# Altium footprint library PcbLib1.PcbLib: 54 footprints (part 4 of 4)
Each footprint in its own frame and in the unit in brackets; x right, y up, seen from the top. Pads: shape width x height; smd on the part's side, far side on the other; paste and mask are expansions set on the pad; w line width, h text height; cw(c..) or ccw(c..) is an arc to the next point about the centre after c.
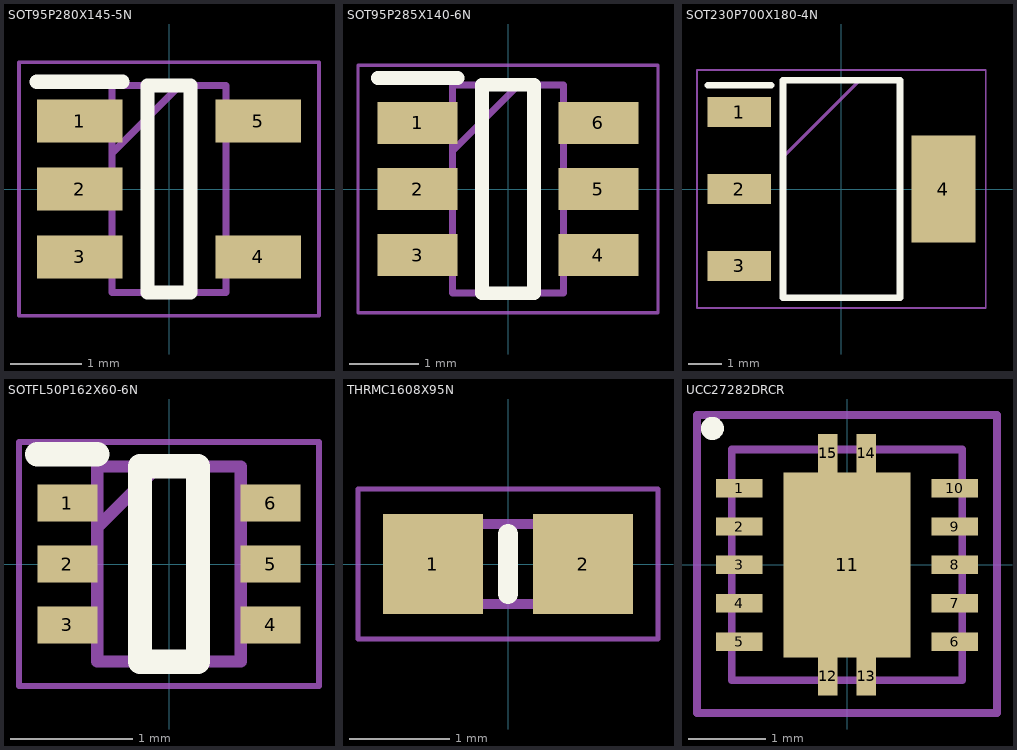
[diagram p3: the footprints below, top view; thin cyan lines are the x and y axes]

## SOT95P280X145-5N [mm]
pads (5):
  rect 1.2x0.6 smd: 1(-1.25,0.95) 2(-1.25,0) 3(-1.25,-0.95) 4(1.25,-0.95) 5(1.25,0.95)
Top Overlay:
  lines w0.2: -1.85,1.5 -0.65,1.5 ; -0.3,-1.45 0.3,-1.45 0.3,1.45 -0.3,1.45 -0.3,-1.45
Mechanical 13:
  lines w0.1: -0.8,0.5 0.15,1.45 ; -0.8,-1.45 0.8,-1.45 0.8,1.45 -0.8,1.45 -0.8,-1.45
Mechanical 15:
  lines w0.05: -2.1,-1.775 2.1,-1.775 2.1,1.775 -2.1,1.775 -2.1,-1.775
3D body "LMR62014XMF_NOPB.stp": height 1.2, standoff 0, extent -1.4,-1.45 1.4,1.45

## SOT95P285X140-6N [mm]
pads (6):
  rect 1.15x0.6 smd: 1(-1.3,0.95) 2(-1.3,0) 3(-1.3,-0.95) 4(1.3,-0.95) 5(1.3,0) 6(1.3,0.95)
Top Overlay:
  lines w0.2: -1.875,1.6 -0.725,1.6 ; -0.375,-1.5 -0.375,1.5 0.375,1.5 0.375,-1.5 -0.375,-1.5
Mechanical 13:
  lines w0.1: -0.8,0.55 0.15,1.5 ; -0.8,-1.5 -0.8,1.5 0.8,1.5 0.8,-1.5 -0.8,-1.5
Mechanical 15:
  lines w0.05: -2.159,-1.778 -2.159,1.778 2.159,1.778 2.159,-1.778 -2.159,-1.778
3D body "74LVC1G11W6-7.stp": height 1.4, standoff 0, extent -1.425,-1.5 1.425,1.5

## SOT230P700X180-4N [mm]
pads (4):
  rect 1.9x0.9 smd: 1(-3.05,2.3) 2(-3.05,0) 3(-3.05,-2.3)
  rect 1.9x3.2 smd: 4(3.05,0)
Top Overlay:
  lines w0.2: -4,3.1 -2.1,3.1 ; -1.75,-3.25 1.75,-3.25 1.75,3.25 -1.75,3.25 -1.75,-3.25
Mechanical 13:
  lines w0.1: -1.75,0.95 0.55,3.25 ; -1.75,-3.25 1.75,-3.25 1.75,3.25 -1.75,3.25 -1.75,-3.25
Mechanical 15:
  lines w0.05: -4.318,-3.556 4.318,-3.556 4.318,3.556 -4.318,3.556 -4.318,-3.556
3D body "AP2114H-3.3TRG1.stp": height 1.8, standoff 0, extent -3.5,-3.25 3.5,3.25

## SOTFL50P162X60-6N [mm]
pads (6):
  rect 0.492x0.3 smd: 1(-0.834,0.5) 2(-0.834,0) 3(-0.834,-0.5) 4(0.834,-0.5) 5(0.834,0) 6(0.834,0.5)
Top Overlay:
  lines w0.2: -1.08,0.9 -0.588,0.9 ; -0.238,-0.8 0.238,-0.8 0.238,0.8 -0.238,0.8 -0.238,-0.8
Mechanical 13:
  lines w0.1: -0.588,0.3 -0.088,0.8 ; -0.588,-0.8 0.588,-0.8 0.588,0.8 -0.588,0.8 -0.588,-0.8
Mechanical 15:
  lines w0.05: -1.23,-1 1.23,-1 1.23,1 -1.23,1 -1.23,-1
3D body "D5V0F4U6V-7.stp": height 0.6, standoff 0, extent -0.813,-0.8 0.813,0.8

## THRMC1608X95N [mm]
pads (2):
  rect 1x1 smd: 1(-0.75,0) 2(0.75,0)
Top Overlay:
  lines w0.2: 0,-0.3 0,0.3
Mechanical 13:
  lines w0.1: -0.8,-0.4 -0.8,0.4 0.8,0.4 0.8,-0.4 -0.8,-0.4
Mechanical 15:
  lines w0.05: -1.5,-0.75 -1.5,0.75 1.5,0.75 1.5,-0.75 -1.5,-0.75
3D body "NCP18XH103F03RB.stp": height 0.95, standoff 0, extent -0.8,-0.4 0.8,0.4

## UCC27282DRCR [mm]
pads (15):
  rect 0.6x0.24 smd: 1(-1.4,1) 2(-1.4,0.5) 3(-1.4,0) 4(-1.4,-0.5) 5(-1.4,-1) 6(1.4,-1) 7(1.4,-0.5) 8(1.4,0) 9(1.4,0.5) 10(1.4,1)
  rect 1.65x2.4 smd: 11(0,0)
  rect 0.25x0.5 smd: 12(-0.25,-1.45) 13(0.25,-1.45) 14(0.25,1.45) 15(-0.25,1.45)
Top Overlay:
  lines w0.2: -1.8,1.775 ccw(c-1.75,1.775) -1.7,1.775 ; -1.8,1.775 cw(c-1.75,1.775) -1.7,1.775 ; -1.8,1.775 ccw(c-1.75,1.775) -1.7,1.775
Mechanical 13:
  lines w0.1: -1.5,-1.5 -1.5,1.5 1.5,1.5 1.5,-1.5 -1.5,-1.5
Mechanical 15:
  lines w0.1: -1.95,-1.925 -1.95,1.95 1.95,1.95 1.95,-1.925 -1.95,-1.925
3D body "UCC27282DRCR.stp": height 1.1, standoff 0, extent -1.5,-1.5 1.5,1.5